# EAGLE library part ARDUCAM (library bbb_localization_cape)
ArduCAM OV5642
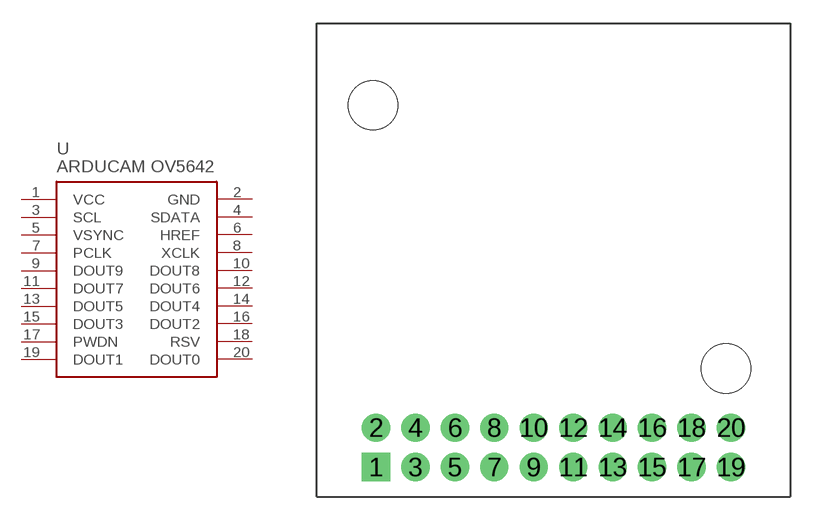
[diagram p0: symbol with the pads of ARDUCAM; footprint ARDUCAM]

Designator prefix U

## ARDUCAMOV5642  [ARDUCAM]
1  VCC
2  GND
3  SCL
4  SDATA
5  VSYNC
6  HREF
7  PCLK
8  XCLK
9  DOUT9
10  DOUT8
11  DOUT7
12  DOUT6
13  DOUT5
14  DOUT4
15  DOUT3
16  DOUT2
17  PWDN
18  RSV
19  DOUT1
20  DOUT0

## Footprint ARDUCAM (pad centres in mm)
drill 1.12 pad 1.82 square: 1 0,0
drill 1.12 pad 1.82: 2 0,2.54; 3 2.54,0; 4 2.54,2.54; 5 5.08,0; 6 5.08,2.54; 7 7.62,0; 8 7.62,2.54; 9 10.16,0; 10 10.16,2.54; 11 12.7,0; 12 12.7,2.54; 13 15.24,0; 14 15.24,2.54; 15 17.78,0; 16 17.78,2.54; 17 20.32,0; 18 20.32,2.54; 19 22.86,0; 20 22.86,2.54
hole 3.175 at 22.543,6.35
hole 3.175 at -0.191,23.305